# Altium integrated library jakobs_library.IntLib: 8 symbols
Pins are listed as number, name and electrical type; pins without a type are passive.

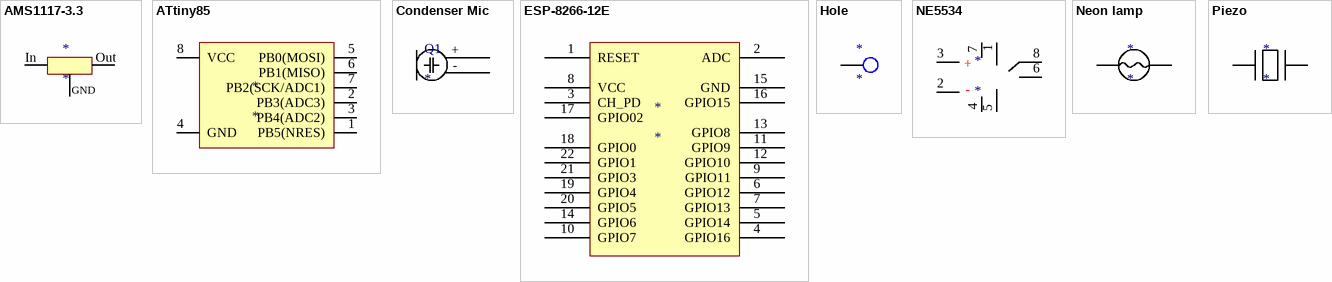
[diagram p0: symbols AMS1117-3.3 to Piezo]

## AMS1117-3.3
designator *
footprint SOT223
pins: 1, 2, 3
text: In; Out; GND

## ATtiny85
designator *
footprint DIP8
pins: 1 PB5(NRES), 2 PB3(ADC3), 3 PB4(ADC2), 4 GND, 5 PB0(MOSI), 6 PB1(MISO), 7 PB2(SCK/ADC1), 8 VCC

## Condenser Mic
designator Q1
footprint Condenser mic
pins: 1, 2
text: +; -

## ESP-8266-12E
designator *
footprint XCVR_ESP8266-12E/ESP-12E
pins: 1 RESET, 2 ADC, 3 CH_PD, 4 GPIO16, 5 GPIO14, 6 GPIO12, 7 GPIO13, 8 VCC, 9 GPIO11, 10 GPIO7, 11 GPIO9, 12 GPIO10, 13 GPIO8, 14 GPIO6, 15 GND, 16 GPIO15, 17 GPIO02, 18 GPIO0, 19 GPIO4, 20 GPIO5, 21 GPIO3, 22 GPIO1

## Hole
designator *
footprint Hole
pins: 1

## NE5534
designator *
footprint DIP8
pins: 1, 2, 3, 4, 5, 6, 7, 8
text: +; -

## Neon lamp
designator *
pins: 1, 1

## Piezo
designator *
pins: 1, 2